# Altium schematic symbol library TCMT1100.SchLib: 1 symbol
Pins are listed as number, name and electrical type; pins without a type are passive.

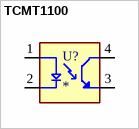
[diagram p0: symbol TCMT1100]

## TCMT1100
designator U?
Optoisolator Transistor Output 3750Vrms 1 Channel 4-SOP; MF: Vishay Semiconductor; MP: TCMT1100; SnapEDA_Link: https://www.snapeda.com/parts/TCMT1100/Vishay/view-part/?ref=snap; Package: SOP-4 Vishay Semiconductor; Value: *; Check_prices: https://www.snapeda.com/parts/TCMT1100/Vishay/view-part/?ref=eda
footprint SOIC127P700X230-4N
pins: 1 A, 2 C, 3 ET, 4 CT